# Altium schematic symbol library CMF2.1131.12.SchLib: 1 symbol
Pins are listed as number, name and electrical type; pins without a type are passive.

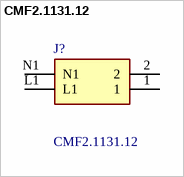
[diagram p0: symbol CMF2.1131.12]

## CMF2.1131.12
designator J?
Power Entry Connector Receptacle, Male Pins - Module IEC 320-C8 Panel Mount, Snap-In; Through Hole, Right Angle , 250VAC , 2.5A; Manufacturer_Name: SCHURTER; Geometry.Height: 18mm; Manufacturer_Part_Number: CMF2.1131.12; Mouser Part Number: 693-CMF2.1131.12; Mouser Price/Stock: https://www.mouser.co.uk/ProductDetail/Schurter/CMF2.1131.12?qs=h0lr9otJFD4rz3xL8%2FqzdA%3D%3D; Arrow Part Number: *; Arrow Price/Stock: *; Datasheet Link: https://www.schurter.com/en/datasheet/typ_CMF2.pdf
footprint CMF2113112
pins: 1, 2, L1, N1